# Altium integrated library 电感.IntLib: 4 symbols
Pins are listed as number, name and electrical type; pins without a type are passive.

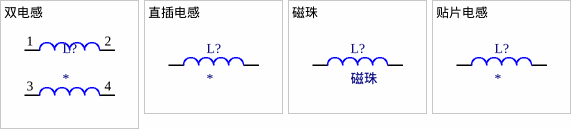
[diagram p0: symbols 双电感 to 贴片电感]

## 双电感
designator L?
footprint 双电感
footprint L-CM(16*12*8)
footprint L-CM(18*9*7)
footprint L-CM(25*15*12)
pins: 1, 2, 3, 4

## 直插电感
designator L?
footprint L6X8
footprint L8*10
footprint L8x8 (L?)
footprint L9x9 (L?)
footprint L5X7.5
footprint 77438
pins: 1, 2

## 磁珠
designator L?
footprint L0402 (1/16W)
footprint L0603
footprint L0805 (1/8W)
footprint L1206 (1/4W)
footprint L1210
footprint L1808
footprint L1812
footprint L2220
pins: 1, 2

## 贴片电感
designator L?
footprint L5X4
footprint L5X5
footprint L7X7 (POWER INDUCTOR 5uH)
footprint L10X10
footprint L12X12
footprint L25X25
footprint L0402 (1/16W)
footprint L0603
footprint L0805 (1/8W)
footprint L1008 (2520)
footprint L1206 (1/4W)
footprint L1210
footprint L1808
footprint L1812
footprint L2220
footprint L2525
pins: 1, 2